# Altium footprint library PCV-2-564-08L.PCBLIB: 1 footprints
Each footprint in its own frame and in the unit in brackets; x right, y up, seen from the top. Pads: shape width x height; smd on the part's side, far side on the other; paste and mask are expansions set on the pad; w line width, h text height; cw(c..) or ccw(c..) is an arc to the next point about the centre after c.
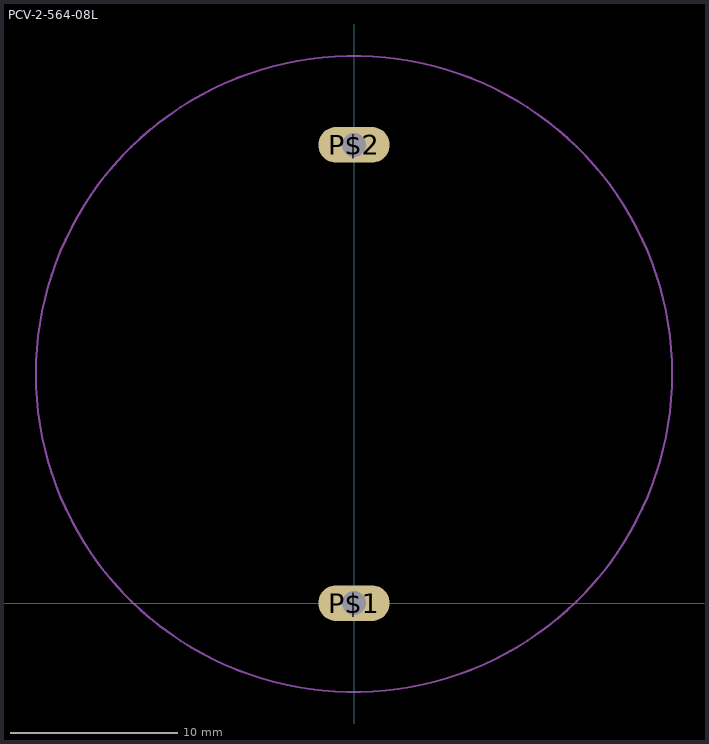
[diagram p0: the footprint, top view; thin cyan lines are the x and y axes]

## PCV-2-564-08L [mil]
pads (2):
  oval 168x84 hole 56: P$1(0,0) P$2(0,1080)
Mechanical 10:
  circle w5: c0,540 r750
  region: 0,0 10,0 10,10 0,10